# EAGLE library part LTC4830 (library power_dist)
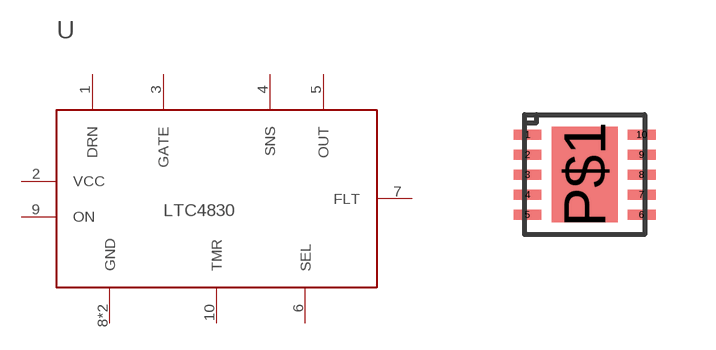
[diagram p8: symbol with the pads of DFN10; footprint DFN10]

Designator prefix -

## LTC4830  [DFN10]
1  DRN
2  VCC
3  GATE
4  SNS
5  OUT
6  SEL
7  FLT
8  GND
9  ON
10  TMR
P$1  GND

## Footprint DFN10 (pad centres in mm)
smd 0.7 x 0.25: 1 -1.425,1; 2 -1.425,0.5; 3 -1.425,0; 4 -1.425,-0.5; 5 -1.425,-1; 6 1.425,-1; 7 1.425,-0.5; 8 1.425,0; 9 1.425,0.5; 10 1.425,1
smd 1.65 x 2.38: P$1 0,0